# EAGLE library part AS-ITM-00186 (library tinycircuits)
IC OSC SINGLE TIMER 1MHZ 8-SOIC
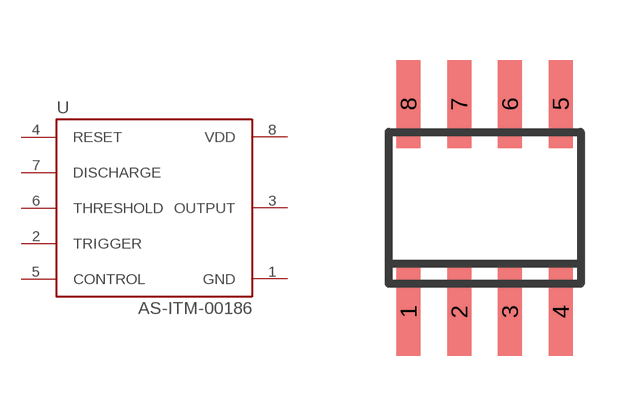
[diagram p79: symbol with the pads of SO-08; footprint SO-08]

Designator prefix U

## AS-ITM-00186 (PARTNO: AS-ITM-00186; VALUE: ICM7555CBAZ-T)  [SO-08]
1  GND
2  TRIGGER
3  OUTPUT
4  RESET
5  CONTROL
6  THRESHOLD
7  DISCHARGE
8  VDD

## Footprint SO-08 (pad centres in mm)
D (R-PDSO-G8) Plastic Small Outline Package Source: http://focus.ti.com/lit/ds/symlink/sn65als176.pdf
smd 0.6 x 2.2: 1 -1.905,-2.6; 2 -0.635,-2.6; 3 0.635,-2.6; 4 1.905,-2.6; 5 1.905,2.6; 6 0.635,2.6; 7 -0.635,2.6; 8 -1.905,2.6